# EAGLE library part AT7456E (library AT7456E)
Video Character Overlay Chip (OSD) Source: Datasheet <https://datasheet.lcsc.com/szlcsc/ZHONGKEWEI-AT7456E_C82351.pdf>
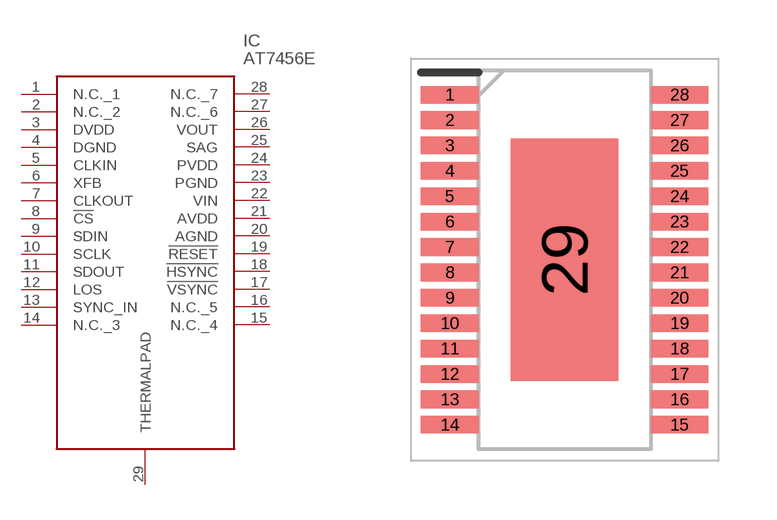
[diagram p0: symbol with the pads of SOP65P640X120-29N; footprint SOP65P640X120-29N]

Designator prefix IC

## AT7456E (Description: Video Character Overlay Chip (OSD); Height: 1.2mm; Manufacturer_Name: ICOF; Manufacturer_Part_Number: AT7456E)  [SOP65P640X120-29N]
1  N.C._1
2  N.C._2
3  DVDD
4  DGND
5  CLKIN
6  XFB
7  CLKOUT
8  !CS
9  SDIN
10  SCLK
11  SDOUT
12  LOS
13  SYNC_IN
14  N.C._3
15  N.C._4
16  N.C._5
17  !VSYNC
18  !HSYNC
19  !RESET
20  AGND
21  AVDD
22  VIN
23  PGND
24  PVDD
25  SAG
26  VOUT
27  N.C._6
28  N.C._7
29  THERMALPAD

## Footprint SOP65P640X120-29N (pad centres in mm)
HTSSOP28NT
smd 1.475 x 0.45: 1 -2.938,4.225; 2 -2.938,3.575; 3 -2.938,2.925; 4 -2.938,2.275; 5 -2.938,1.625; 6 -2.938,0.975; 7 -2.938,0.325; 8 -2.938,-0.325; 9 -2.938,-0.975; 10 -2.938,-1.625; 11 -2.938,-2.275; 12 -2.938,-2.925; 13 -2.938,-3.575; 14 -2.938,-4.225; 15 2.938,-4.225; 16 2.938,-3.575; 17 2.938,-2.925; 18 2.938,-2.275; 19 2.938,-1.625; 20 2.938,-0.975; 21 2.938,-0.325; 22 2.938,0.325; 23 2.938,0.975; 24 2.938,1.625; 25 2.938,2.275; 26 2.938,2.925; 27 2.938,3.575; 28 2.938,4.225
smd 2.75 x 6.2: 29 0,0